# Altium footprint library opo_general.PcbLib: 43 footprints (part 2 of 3)
Each footprint in its own frame and in the unit in brackets; x right, y up, seen from the top. Pads: shape width x height; smd on the part's side, far side on the other; paste and mask are expansions set on the pad; w line width, h text height; cw(c..) or ccw(c..) is an arc to the next point about the centre after c.
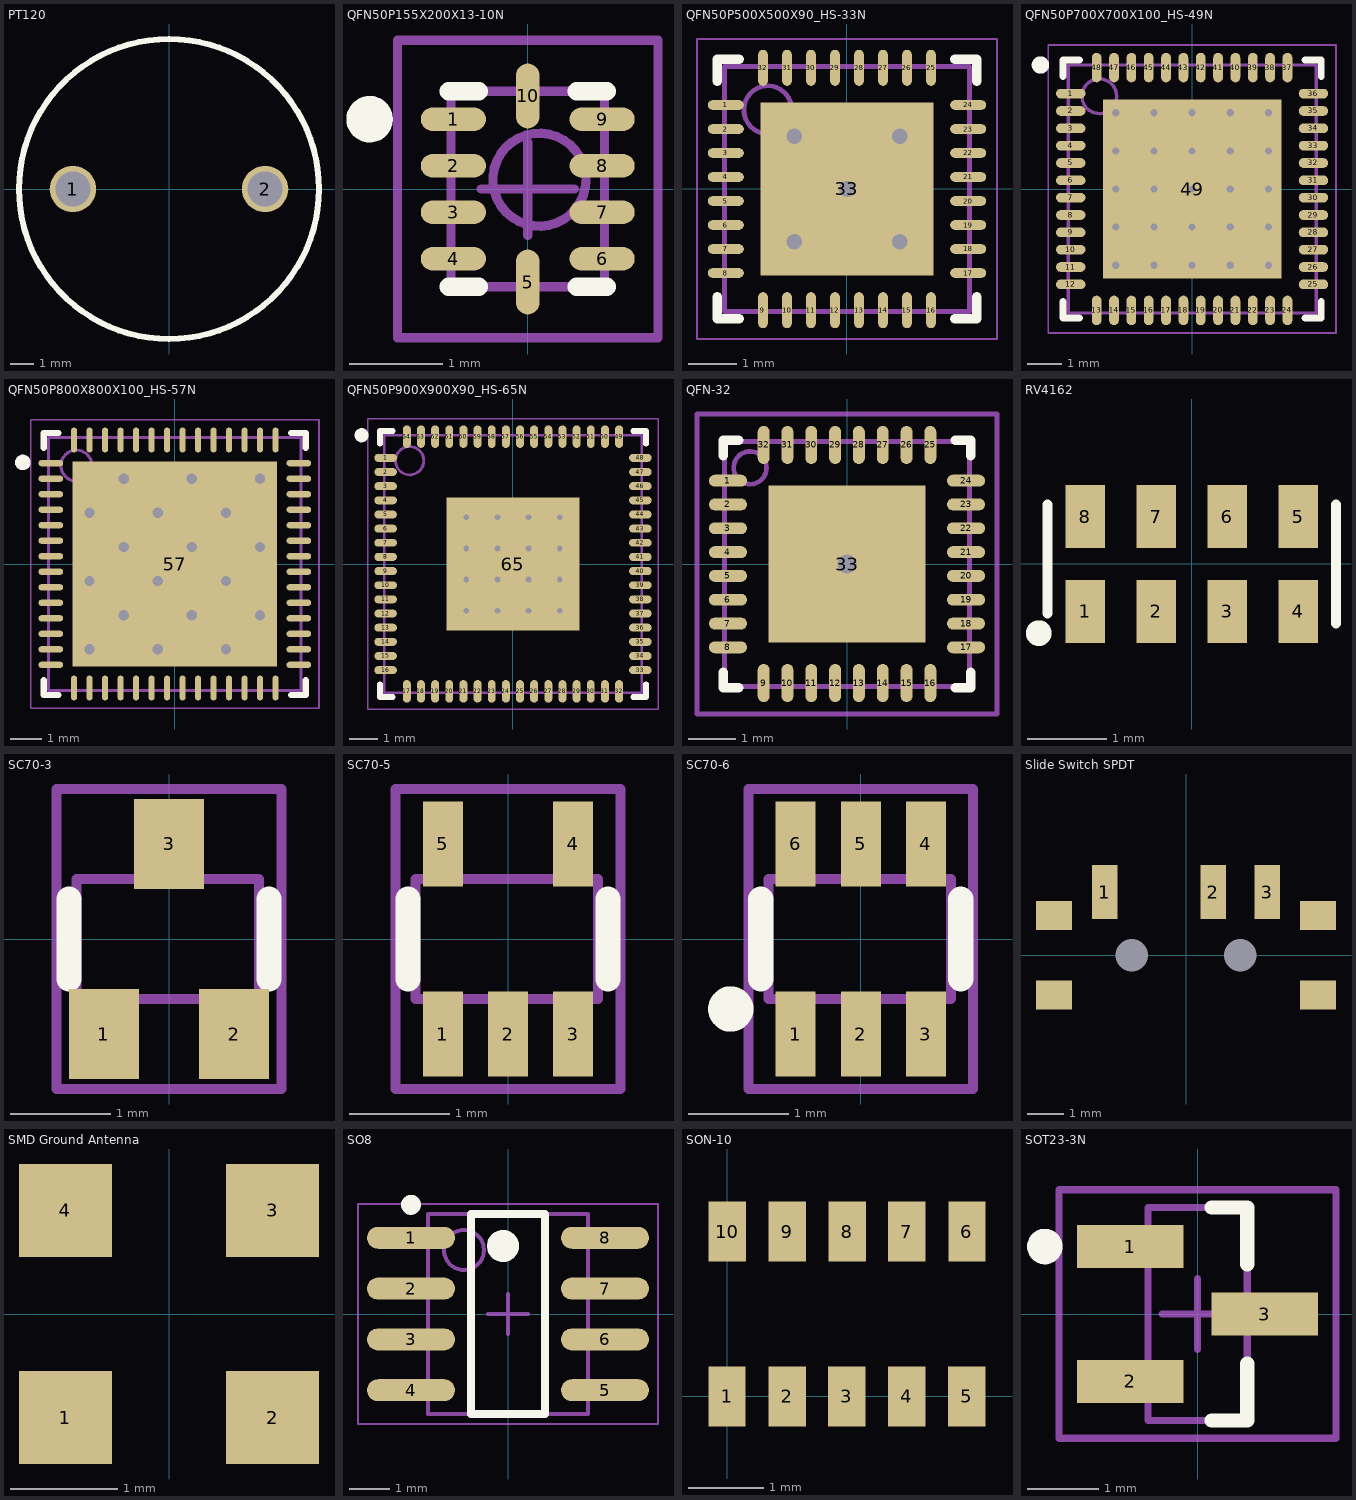
[diagram p1: the footprints below, top view; thin cyan lines are the x and y axes]

## PT120 [mm]
pads (2):
  round 2 hole 1.5: 1(-4.15,0) 2(4.15,0)
Top Overlay:
  circle w0.254: c0,0 r6.477
3D body: height 5, standoff -3, extent 3.406,-0.748 4.9,0.749
3D body: height 5, standoff -3, extent -4.894,-0.748 -3.4,0.749
3D body: height 9, standoff 0, extent -6.493,-6.498 6.5,6.498

## QFN50P155X200X13-10N [mm] "QFN, 10-Leads, Body 2.1x1.6mm (max), Pitch 0.50mm, IPC Medium Density"
height 0.127
pads (10):
  oval 0.7x0.25 smd: 1(-0.8,0.75) 2(-0.8,0.25) 3(-0.8,-0.25) 4(-0.8,-0.75) 6(0.8,-0.75) 7(0.8,-0.25) 8(0.8,0.25) 9(0.8,0.75)
  oval 0.25x0.7 smd: 5(0,-1) 10(0,1)
Top Overlay:
  circle w0.25: c-1.7,0.75 r0.125
  lines w0.2: -0.85,-1.05 -0.525,-1.05 ; -0.85,1.05 -0.525,1.05 ; 0.525,-1.05 0.85,-1.05 ; 0.525,1.05 0.85,1.05
Mechanical 13:
  circle w0.1: c0.125,0.1 r0.5
  lines w0.1: -0.825,-1.05 -0.825,1.05 0.825,1.05 0.825,-1.05 -0.825,-1.05
Mechanical 15:
  lines w0.1: -0.5,0 0.5,0 ; 0,-0.5 0,0.5 ; -1.4,-1.6 -1.4,1.6 1.4,1.6 1.4,-1.6 -1.4,-1.6
3D body: height 0.13, standoff 0, extent -0.825,-1.05 0.825,1.05

## QFN50P500X500X90_HS-33N [mm] "QFN, 32-Leads, Body 5.00x5.00mm, Pitch 0.50mm, Thermal Pad 3.60x3.60mm, IPC Medium Density"
height 0.9
pads (33):
  oval 0.75x0.2 smd: 1(-2.525,1.75) 2(-2.525,1.25) 3(-2.525,0.75) 4(-2.525,0.25) 5(-2.525,-0.25) 6(-2.525,-0.75) 7(-2.525,-1.25) 8(-2.525,-1.75) 17(2.525,-1.75) 18(2.525,-1.25) 19(2.525,-0.75) 20(2.525,-0.25) 21(2.525,0.25) 22(2.525,0.75) 23(2.525,1.25) 24(2.525,1.75)
  oval 0.2x0.75 smd: 9(-1.75,-2.525) 10(-1.25,-2.525) 11(-0.75,-2.525) 12(-0.25,-2.525) 13(0.25,-2.525) 14(0.75,-2.525) 15(1.25,-2.525) 16(1.75,-2.525) 25(1.75,2.525) 26(1.25,2.525) 27(0.75,2.525) 28(0.25,2.525) 29(-0.25,2.525) 30(-0.75,2.525) 31(-1.25,2.525) 32(-1.75,2.525)
  rect 3.6x3.6 smd: 33(0,0)
via 1.1,-1.1 diameter 0.686 hole 0.33
via -1.1,-1.1 diameter 0.686 hole 0.33
via 0,0 diameter 0.686 hole 0.33
via 1.1,1.1 diameter 0.686 hole 0.33
via -1.1,1.1 diameter 0.686 hole 0.33
Top Overlay:
  lines w0.2: -2.7,-2.25 -2.7,-2.7 -2.25,-2.7 ; -2.7,2.25 -2.7,2.7 -2.25,2.7 ; 2.25,-2.7 2.7,-2.7 2.7,-2.25 ; 2.25,2.7 2.7,2.7 2.7,2.25
Mechanical 13:
  circle w0.1: c-1.65,1.65 r0.5
  lines w0.1: -2.55,-2.55 2.55,-2.55 2.55,2.55 -2.55,2.55 -2.55,-2.55
Mechanical 15:
  lines w0.05: -3.125,-3.125 3.125,-3.125 3.125,3.125 -3.125,3.125 -3.125,-3.125
  lines w0.1: -0.5,0 0.5,0 ; 0,-0.5 0,0.5
3D body: height 0.9, standoff 0, extent -2.55,-2.55 2.55,2.55

## QFN50P700X700X100_HS-49N [mm] "QFN, 48-Leads, Body 7.00x7.00mm, Pitch 0.50mm, Thermal Pad 5.15x5.15mm, IPC Medium Density"
height 1
pads (49):
  oval 0.85x0.28 smd mask+0.07: 1(-3.5,2.75) 2(-3.5,2.25) 3(-3.5,1.75) 4(-3.5,1.25) 5(-3.5,0.75) 6(-3.5,0.25) 7(-3.5,-0.25) 8(-3.5,-0.75) 9(-3.5,-1.25) 10(-3.5,-1.75) 11(-3.5,-2.25) 12(-3.5,-2.75) 25(3.5,-2.75) 26(3.5,-2.25) 27(3.5,-1.75) 28(3.5,-1.25) 29(3.5,-0.75) 30(3.5,-0.25) 31(3.5,0.25) 32(3.5,0.75) 33(3.5,1.25) 34(3.5,1.75) 35(3.5,2.25) 36(3.5,2.75)
  oval 0.28x0.85 smd mask+0.07: 13(-2.75,-3.5) 14(-2.25,-3.5) 15(-1.75,-3.5) 16(-1.25,-3.5) 17(-0.75,-3.5) 18(-0.25,-3.5) 19(0.25,-3.5) 20(0.75,-3.5) 21(1.25,-3.5) 22(1.75,-3.5) 23(2.25,-3.5) 24(2.75,-3.5) 37(2.75,3.5) 38(2.25,3.5) 39(1.75,3.5) 40(1.25,3.5) 41(0.75,3.5) 42(0.25,3.5) 43(-0.25,3.5) 44(-0.75,3.5) 45(-1.25,3.5) 46(-1.75,3.5) 47(-2.25,3.5) 48(-2.75,3.5)
  rect 5.15x5.15 smd: 49(0,0)
via 2.2,-2.2 diameter 0.5 hole 0.205
via 1.1,-2.2 diameter 0.5 hole 0.205
via 0,-2.2 diameter 0.5 hole 0.205
via -1.1,-2.2 diameter 0.5 hole 0.205
via -2.2,-2.2 diameter 0.5 hole 0.205
via 2.2,-1.1 diameter 0.5 hole 0.205
via 1.1,-1.1 diameter 0.5 hole 0.205
via 0,-1.1 diameter 0.5 hole 0.205
via -1.1,-1.1 diameter 0.5 hole 0.205
via -2.2,-1.1 diameter 0.5 hole 0.205
via 2.2,0 diameter 0.5 hole 0.205
via 1.1,0 diameter 0.5 hole 0.205
via 0,0 diameter 0.5 hole 0.205
via -1.1,0 diameter 0.5 hole 0.205
via -2.2,0 diameter 0.5 hole 0.205
via 2.2,1.1 diameter 0.5 hole 0.205
via 1.1,1.1 diameter 0.5 hole 0.205
via 0,1.1 diameter 0.5 hole 0.205
via -1.1,1.1 diameter 0.5 hole 0.205
via -2.2,1.1 diameter 0.5 hole 0.205
via 2.2,2.2 diameter 0.5 hole 0.205
via 1.1,2.2 diameter 0.5 hole 0.205
via 0,2.2 diameter 0.5 hole 0.205
via -1.1,2.2 diameter 0.5 hole 0.205
via -2.2,2.2 diameter 0.5 hole 0.205
Top Overlay:
  circle w0.25: c-4.375,3.575 r0.125
  lines w0.2: -3.725,-3.25 -3.725,-3.725 -3.25,-3.725 ; -3.725,3.25 -3.725,3.725 -3.25,3.725 ; 3.25,-3.725 3.725,-3.725 3.725,-3.25 ; 3.25,3.725 3.725,3.725 3.725,3.25
Mechanical 13:
  circle w0.1: c-2.675,2.675 r0.5
  lines w0.1: -3.575,-3.575 3.575,-3.575 3.575,3.575 -3.575,3.575 -3.575,-3.575
Mechanical 15:
  lines w0.05: -4.15,-4.15 4.15,-4.15 4.15,4.15 -4.15,4.15 -4.15,-4.15
  lines w0.1: -0.5,0 0.5,0 ; 0,-0.5 0,0.5
3D body: height 1, standoff 0, extent -3.575,-3.575 3.575,3.575

## QFN50P800X800X100_HS-57N [mm] "QFN, 56-Leads, Body 8.00x8.00mm, Pitch 0.50mm, Thermal Pad 6.60x6.60mm, IPC Medium Density"
height 1
pads (57):
  oval 0.8x0.2 smd: 1(-4,3.25) 2(-4,2.75) 3(-4,2.25) 4(-4,1.75) 5(-4,1.25) 6(-4,0.75) 7(-4,0.25) 8(-4,-0.25) 9(-4,-0.75) 10(-4,-1.25) 11(-4,-1.75) 12(-4,-2.25) 13(-4,-2.75) 14(-4,-3.25) 29(4,-3.25) 30(4,-2.75) 31(4,-2.25) 32(4,-1.75) 33(4,-1.25) 34(4,-0.75) 35(4,-0.25) 36(4,0.25) 37(4,0.75) 38(4,1.25) 39(4,1.75) 40(4,2.25) 41(4,2.75) 42(4,3.25)
  oval 0.2x0.8 smd: 15(-3.25,-4) 16(-2.75,-4) 17(-2.25,-4) 18(-1.75,-4) 19(-1.25,-4) 20(-0.75,-4) 21(-0.25,-4) 22(0.25,-4) 23(0.75,-4) 24(1.25,-4) 25(1.75,-4) 26(2.25,-4) 27(2.75,-4) 28(3.25,-4) 43(3.25,4) 44(2.75,4) 45(2.25,4) 46(1.75,4) 47(1.25,4) 48(0.75,4) 49(0.25,4) 50(-0.25,4) 51(-0.75,4) 52(-1.25,4) 53(-1.75,4) 54(-2.25,4) 55(-2.75,4) 56(-3.25,4)
  rect 6.6x6.6 smd: 57(0,0)
via -1.65,2.75 diameter 0.686 hole 0.33
via 0.55,2.75 diameter 0.686 hole 0.33
via 2.75,2.75 diameter 0.686 hole 0.33
via -2.75,1.65 diameter 0.686 hole 0.33
via -0.55,1.65 diameter 0.686 hole 0.33
via 1.65,1.65 diameter 0.686 hole 0.33
via -1.65,0.55 diameter 0.686 hole 0.33
via 0.55,0.55 diameter 0.686 hole 0.33
via 2.75,0.55 diameter 0.686 hole 0.33
via -2.75,-0.55 diameter 0.686 hole 0.33
via -0.55,-0.55 diameter 0.686 hole 0.33
via 1.65,-0.55 diameter 0.686 hole 0.33
via -1.65,-1.65 diameter 0.686 hole 0.33
via 0.55,-1.65 diameter 0.686 hole 0.33
via 2.75,-1.65 diameter 0.686 hole 0.33
via -2.75,-2.75 diameter 0.686 hole 0.33
via -0.55,-2.75 diameter 0.686 hole 0.33
via 1.65,-2.75 diameter 0.686 hole 0.33
Top Overlay:
  circle w0.25: c-4.9,3.275 r0.125
  lines w0.2: -4.225,-3.75 -4.225,-4.225 -3.75,-4.225 ; -4.225,3.75 -4.225,4.225 -3.75,4.225 ; 3.75,-4.225 4.225,-4.225 4.225,-3.75 ; 3.75,4.225 4.225,4.225 4.225,3.75
Mechanical 13:
  circle w0.1: c-3.175,3.175 r0.5
  lines w0.1: -4.075,-4.075 -4.075,4.075 4.075,4.075 4.075,-4.075 -4.075,-4.075
Mechanical 15:
  lines w0.05: -4.65,-4.65 -4.65,4.65 4.65,4.65 4.65,-4.65 -4.65,-4.65
  lines w0.1: -0.5,0 0.5,0 ; 0,-0.5 0,0.5
3D body: height 1, standoff 0.05, extent -4.075,-4.075 4.075,4.075

## QFN50P900X900X90_HS-65N [mm] "QFN, 64-Leads, Body 9.00x9.00mm, Pitch 0.50mm, Thermal Pad 4.70x4.70mm, IPC Medium Density"
height 0.9
pads (65):
  oval 0.8x0.28 smd mask+0.07: 1(-4.5,3.75) 2(-4.5,3.25) 3(-4.5,2.75) 4(-4.5,2.25) 5(-4.5,1.75) 6(-4.5,1.25) 7(-4.5,0.75) 8(-4.5,0.25) 9(-4.5,-0.25) 10(-4.5,-0.75) 11(-4.5,-1.25) 12(-4.5,-1.75) 13(-4.5,-2.25) 14(-4.5,-2.75) 15(-4.5,-3.25) 16(-4.5,-3.75) 33(4.5,-3.75) 34(4.5,-3.25) 35(4.5,-2.75) 36(4.5,-2.25) 37(4.5,-1.75) 38(4.5,-1.25) 39(4.5,-0.75) 40(4.5,-0.25) 41(4.5,0.25) 42(4.5,0.75) 43(4.5,1.25) 44(4.5,1.75) 45(4.5,2.25) 46(4.5,2.75) 47(4.5,3.25) 48(4.5,3.75)
  oval 0.28x0.8 smd mask+0.07: 17(-3.75,-4.5) 18(-3.25,-4.5) 19(-2.75,-4.5) 20(-2.25,-4.5) 21(-1.75,-4.5) 22(-1.25,-4.5) 23(-0.75,-4.5) 24(-0.25,-4.5) 25(0.25,-4.5) 26(0.75,-4.5) 27(1.25,-4.5) 28(1.75,-4.5) 29(2.25,-4.5) 30(2.75,-4.5) 31(3.25,-4.5) 32(3.75,-4.5) 49(3.75,4.5) 50(3.25,4.5) 51(2.75,4.5) 52(2.25,4.5) 53(1.75,4.5) 54(1.25,4.5) 55(0.75,4.5) 56(0.25,4.5) 57(-0.25,4.5) 58(-0.75,4.5) 59(-1.25,4.5) 60(-1.75,4.5) 61(-2.25,4.5) 62(-2.75,4.5) 63(-3.25,4.5) 64(-3.75,4.5)
  rect 4.7x4.7 smd: 65(0,0)
via -1.65,1.65 diameter 0.5 hole 0.205
via -0.55,1.65 diameter 0.5 hole 0.205
via 0.55,1.65 diameter 0.5 hole 0.205
via 1.65,1.65 diameter 0.5 hole 0.205
via -1.65,0.55 diameter 0.5 hole 0.205
via -0.55,0.55 diameter 0.5 hole 0.205
via 0.55,0.55 diameter 0.5 hole 0.205
via 1.65,0.55 diameter 0.5 hole 0.205
via -1.65,-0.55 diameter 0.5 hole 0.205
via -0.55,-0.55 diameter 0.5 hole 0.205
via 0.55,-0.55 diameter 0.5 hole 0.205
via 1.65,-0.55 diameter 0.5 hole 0.205
via -1.65,-1.65 diameter 0.5 hole 0.205
via -0.55,-1.65 diameter 0.5 hole 0.205
via 0.55,-1.65 diameter 0.5 hole 0.205
via 1.65,-1.65 diameter 0.5 hole 0.205
Top Overlay:
  circle w0.25: c-5.35,4.55 r0.125
  lines w0.2: -4.7,-4.25 -4.7,-4.7 -4.25,-4.7 ; -4.7,4.25 -4.7,4.7 -4.25,4.7 ; 4.25,-4.7 4.7,-4.7 4.7,-4.25 ; 4.25,4.7 4.7,4.7 4.7,4.25
Mechanical 13:
  circle w0.1: c-3.65,3.65 r0.5
  lines w0.1: -4.55,-4.55 -4.55,4.55 4.55,4.55 4.55,-4.55 -4.55,-4.55
Mechanical 15:
  lines w0.05: -5.125,-5.125 -5.125,5.125 5.125,5.125 5.125,-5.125 -5.125,-5.125
  lines w0.1: -0.5,0 0.5,0 ; 0,-0.5 0,0.5
3D body: height 0.9, standoff 0, extent -4.55,-4.55 4.55,4.55

## QFN-32 [mm] "32-Pin QFN 0.5 mm Pitch"
height 0.8
pads (33):
  oval 0.8x0.25 smd: 1(-2.5,1.75) 2(-2.5,1.25) 3(-2.5,0.75) 4(-2.5,0.25) 5(-2.5,-0.25) 6(-2.5,-0.75) 7(-2.5,-1.25) 8(-2.5,-1.75) 17(2.5,-1.75) 18(2.5,-1.25) 19(2.5,-0.75) 20(2.5,-0.25) 21(2.5,0.25) 22(2.5,0.75) 23(2.5,1.25) 24(2.5,1.75)
  oval 0.25x0.8 smd: 9(-1.75,-2.5) 10(-1.25,-2.5) 11(-0.75,-2.5) 12(-0.25,-2.5) 13(0.25,-2.5) 14(0.75,-2.5) 15(1.25,-2.5) 16(1.75,-2.5) 25(1.75,2.5) 26(1.25,2.5) 27(0.75,2.5) 28(0.25,2.5) 29(-0.25,2.5) 30(-0.75,2.5) 31(-1.25,2.5) 32(-1.75,2.5)
  rect 3.3x3.3 smd: 33(0,0)
via 0,0 diameter 0.762 hole 0.4
Top Overlay:
  lines w0.2: -2.6,-2.275 -2.6,-2.6 -2.275,-2.6 ; -2.6,2.275 -2.6,2.6 -2.275,2.6 ; 2.275,-2.6 2.6,-2.6 2.6,-2.275 ; 2.275,2.6 2.6,2.6 2.6,2.275
Mechanical 13:
  circle w0.1: c-2.035,2.02 r0.345
  lines w0.1: -2.575,-2.575 -2.575,2.575 2.575,2.575 2.575,-2.575 -2.575,-2.575
Mechanical 15:
  lines w0.1: -0.5,0 0.5,0 ; 0,-0.5 0,0.5 ; -3.15,-3.15 -3.15,3.15 3.15,3.15 3.15,-3.15 -3.15,-3.15
3D body: height 0.8, standoff 0, extent -2.575,-2.575 2.575,2.575

## RV4162 [mm] "RTC"
pads (8):
  rect 0.5x0.8 smd: 1(-1.35,-0.6) 2(-0.45,-0.6) 3(0.45,-0.6) 4(1.35,-0.6) 5(1.35,0.6) 6(0.45,0.6) 7(-0.45,0.6) 8(-1.35,0.6)
Top Overlay:
  circle w0.254: c-1.935,-0.875 r0.035
  lines w0.127: -1.825,-0.625 -1.825,0.75 ; 1.825,-0.75 1.825,0.75
3D body: height 0.8, standoff 0, extent -1.6,-0.75 1.6,0.75

## SC70-3 [mm]
pads (3):
  rect 0.7x0.9 smd: 1(-0.65,-0.95) 2(0.65,-0.95) 3(0,0.95)
Top Overlay:
  lines w0.254: -1,-0.4 -1,0.4 ; 1,-0.4 1,0.4
Mechanical 13:
  lines w0.1: -0.925,-0.6 -0.925,0.6 0.9,0.6 0.9,-0.6 -0.925,-0.6
Mechanical 15:
  lines w0.1: -1.125,-1.5 -1.125,1.5 1.125,1.5 1.125,-1.5 -1.125,-1.5
3D body: height 0.8, standoff 0, extent -0.9,-0.6 0.9,0.6

## SC70-5 [mm]
pads (5):
  rect 0.4x0.85 smd: 1(-0.65,-0.95) 2(0,-0.95) 3(0.65,-0.95) 4(0.65,0.95) 5(-0.65,0.95)
Top Overlay:
  lines w0.254: -1,-0.4 -1,0.4 ; 1,-0.4 1,0.4
Mechanical 13:
  lines w0.1: -0.925,-0.6 0.9,-0.6 0.9,0.6 -0.925,0.6 -0.925,-0.6
Mechanical 15:
  lines w0.1: -1.125,-1.5 1.125,-1.5 1.125,1.5 -1.125,1.5 -1.125,-1.5
3D body: height 0.8, standoff 0, extent -0.9,-0.6 0.9,0.6

## SC70-6 [mm]
pads (6):
  rect 0.4x0.85 smd: 1(-0.65,-0.95) 2(0,-0.95) 3(0.65,-0.95) 4(0.65,0.95) 5(0,0.95) 6(-0.65,0.95)
Top Overlay:
  circle w0.254: c-1.3,-0.7 r0.1
  lines w0.254: -1,-0.4 -1,0.4 ; 1,-0.4 1,0.4
Mechanical 13:
  lines w0.1: -0.925,-0.6 -0.925,0.6 0.9,0.6 0.9,-0.6 -0.925,-0.6
Mechanical 15:
  lines w0.1: -1.125,-1.5 -1.125,1.5 1.125,1.5 1.125,-1.5 -1.125,-1.5
3D body: height 0.8, standoff 0, extent -0.9,-0.6 0.9,0.6

## Slide Switch SPDT [mm] "Surface mount, 3 position, right angle slide switch"
pads (9):
  rect 0.7x1.5 smd: 1(-2.25,1.75) 2(0.75,1.75) 3(2.25,1.75)
  rect 1x0.8 smd: ""(-3.65,-1.1) ""(-3.65,1.1) ""(3.65,-1.1) ""(3.65,1.1)
  round 0 hole 0.9: ""(-1.5,0) ""(1.5,0)
3D body: height 1.4, standoff 0, extent -3.35,-1.3 3.35,1.3
3D body: height 1.25, standoff 0.15, extent -2.175,-2.7 -0.85,-1.3

## SMD Ground Antenna [mm] "0479480001"
pads (4):
  rect 0.87x0.87 smd mask+0.335: 1(-0.97,-0.97) 2(0.97,-0.97) 3(0.97,0.97) 4(-0.97,0.97)
3D body: height 1, standoff 0, extent -1.5,0.5 -0.5,1.5
3D body: height 1, standoff 0, extent 0.5,0.5 1.5,1.5
3D body: height 1, standoff 0, extent 0.5,-1.5 1.5,-0.5
3D body: height 1, standoff 0, extent -1.5,-1.5 -0.5,-0.5
3D body: height 4, standoff 1, extent -1.5,-1.5 1.5,1.5

## SO8 [mm] "SOP, 8-Leads, Body 4.90x3.90mm, Pitch 1.27mm, IPC Medium Density"
height 1.75
pads (8):
  oval 2.2x0.55 smd: 1(-2.425,1.905) 2(-2.425,0.635) 3(-2.425,-0.635) 4(-2.425,-1.905) 5(2.425,-1.905) 6(2.425,-0.635) 7(2.425,0.635) 8(2.425,1.905)
Top Overlay:
  circle w0.4: c-0.125,1.7 r0.2
  circle w0.25: c-2.425,2.73 r0.125
  lines w0.2: -0.925,-2.5 0.925,-2.5 0.925,2.5 -0.925,2.5 -0.925,-2.5
Mechanical 13:
  circle w0.1: c-1.1,1.6 r0.5
  lines w0.1: -2,-2.5 2,-2.5 2,2.5 -2,2.5 -2,-2.5
Mechanical 15:
  lines w0.05: -3.75,-2.75 3.75,-2.75 3.75,2.75 -3.75,2.75 -3.75,-2.75
  lines w0.1: -0.5,0 0.5,0 ; 0,-0.5 0,0.5
3D body: height 1.75, standoff 0.1, extent -2,-2.5 2,2.5

## SON-10 [mm] "RV-8523-C3"
pads (10):
  rect 0.5x0.8 smd: 1(0,0) 2(0.8,0) 3(1.6,0) 4(2.4,0) 5(3.2,0) 6(3.2,2.2) 7(2.4,2.2) 8(1.6,2.2) 9(0.8,2.2) 10(0,2.2)

## SOT23-3N [mm] "SOT23, 3-Leads, Body 2.9x1.3mm, Pitch 0.95mm, Lead Span 2.5mm, IPC Medium Density"
height 1.1
pads (3):
  rect 1.5x0.6 smd: 1(-0.95,0.95) 2(-0.95,-0.95) 3(0.95,0)
Top Overlay:
  circle w0.25: c-2.15,0.95 r0.125
  lines w0.2: 0.2,-1.5 0.7,-1.5 0.7,-0.7 ; 0.2,1.5 0.7,1.5 0.7,0.7
Mechanical 13:
  lines w0.1: -0.7,-1.5 -0.7,1.5 0.7,1.5 0.7,-1.5 -0.7,-1.5
Mechanical 15:
  lines w0.1: -0.5,0 0.5,0 ; 0,-0.5 0,0.5 ; -1.95,-1.75 -1.95,1.75 1.95,1.75 1.95,-1.75 -1.95,-1.75
3D body: height 1.1, standoff 0, extent -0.7,-1.5 0.7,1.5